# Altium footprint library TE_2-796658-8.PcbLib: 1 footprints
Each footprint in its own frame and in the unit in brackets; x right, y up, seen from the top. Pads: shape width x height; smd on the part's side, far side on the other; paste and mask are expansions set on the pad; w line width, h text height; cw(c..) or ccw(c..) is an arc to the next point about the centre after c.
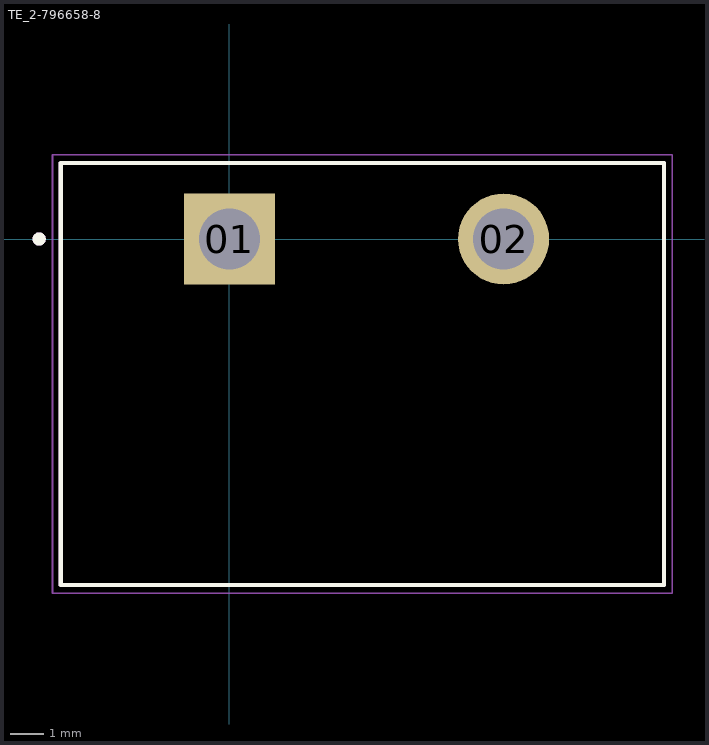
[diagram p0: the footprint, top view; thin cyan lines are the x and y axes]

## TE_2-796658-8 [mil]
pads (2):
  rect 108x108 / inner round 108 / far side rect 108x108 hole 72 mask+4.02: 01(0,0)
  round 108 hole 72 mask+4.02: 02(325,0)
Top Overlay:
  circle w7.87: c-225.59,0 r3.94
  lines w5: -200,-410 515,-410 515,90 -200,90 -200,-410
Assembly Top:
  circle w7.87: c-225.59,0 r3.94
  lines w5: -200,-410 515,-410 ; -200,-410 515,-410 ; -200,-410 -200,90 515,90 515,-410
Courtyard Top:
  lines w1.97: -209.84,-419.84 524.84,-419.84 524.84,99.84 -209.84,99.84 -209.84,-419.84
3D body "step_temp.STEP": height 566.73, standoff -142, extent -197.5,-415 517.5,85